# Altium integrated library FemaleReceptacleSMD_50mil.IntLib: 2 symbols
Pins are listed as number, name and electrical type; pins without a type are passive.

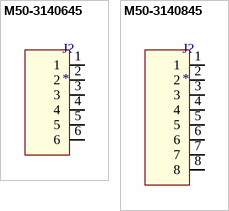
[diagram p0: symbols M50-3140645 to M50-3140845]

## M50-3140645
designator J?
CONN RCPT 6POS 0.05 GOLD SMD / Manufacturer PN: M50-3140645
footprint M50-3140645
pins: 1, 2, 3, 4, 5, 6

## M50-3140845
designator J?
CONN RCPT 8POS 0.05 GOLD SMD / Manufacturer PN: M50-3140845
footprint M50-3140845
pins: 1, 2, 3, 4, 5, 6, 7, 8